# EAGLE library part XB3-24APT-J (library micromouse)
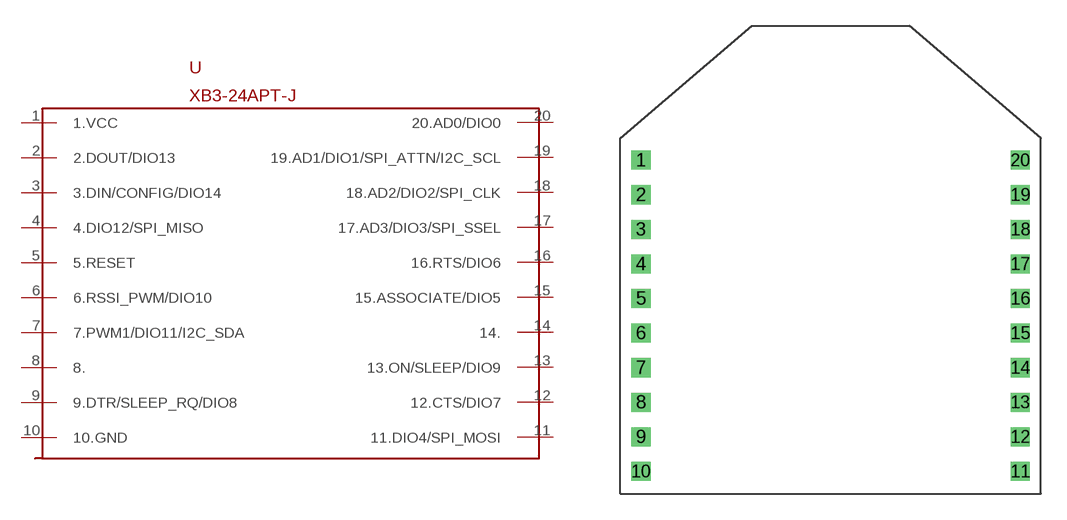
[diagram p10: symbol with the pads of XB3-24APT-J; footprint XB3-24APT-J]

Designator prefix -

## XB3-24APT-J  [XB3-24APT-J]
1  1.VCC
2  2.DOUT/DIO13
3  3.DIN/CONFIG/DIO14
4  4.DIO12/SPI_MISO
5  5.RESET
6  6.RSSI_PWM/DIO10
7  7.PWM1/DIO11/I2C_SDA
8  8.
9  9.DTR/SLEEP_RQ/DIO8
10  10.GND
11  11.DIO4/SPI_MOSI
12  12.CTS/DIO7
13  13.ON/SLEEP/DIO9
14  14.
15  15.ASSOCIATE/DIO5
16  16.RTS/DIO6
17  17.AD3/DIO3/SPI_SSEL
18  18.AD2/DIO2/SPI_CLK
19  19.AD1/DIO1/SPI_ATTN/I2C_SCL
20  20.AD0/DIO0

## Footprint XB3-24APT-J (pad centres in mm)
drill 0.6 square: 1 -10.998,6.02; 2 -10.998,4.013; 3 -10.998,2.007; 4 -10.998,0; 5 -10.998,-2.007; 6 -10.998,-4.013; 7 -10.998,-6.02; 8 -10.998,-8.026; 9 -10.998,-10.033; 10 -10.998,-12.04; 11 10.998,-12.04; 12 10.998,-10.033; 13 10.998,-8.026; 14 10.998,-6.02; 15 10.998,-4.013; 16 10.998,-2.007; 17 10.998,0; 18 10.998,2.007; 19 10.998,4.013; 20 10.998,6.02